# Altium schematic symbol library Bouton.SchLib: 1 symbol
Pins are listed as number, name and electrical type; pins without a type are passive.

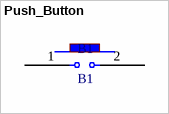
[diagram p0: symbol Push_Button]

## Push_Button
designator B1, comment B1
pins: 1, 2